# Altium schematic symbol library GENERIC_TOUCH_BUTTON.SchLib: 1 symbol
Pins are listed as number, name and electrical type; pins without a type are passive.

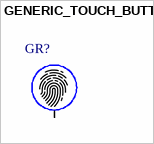
[diagram p0: symbol GENERIC_TOUCH_BUTTON]

## GENERIC_TOUCH_BUTTON
designator GR?  (value not drawn)  (no BOM)
pins: 1 TP